# Altium schematic symbol library Conectores_SCHLIB.SchLib: 47 symbols
Pins are listed as number, name and electrical type; pins without a type are passive.

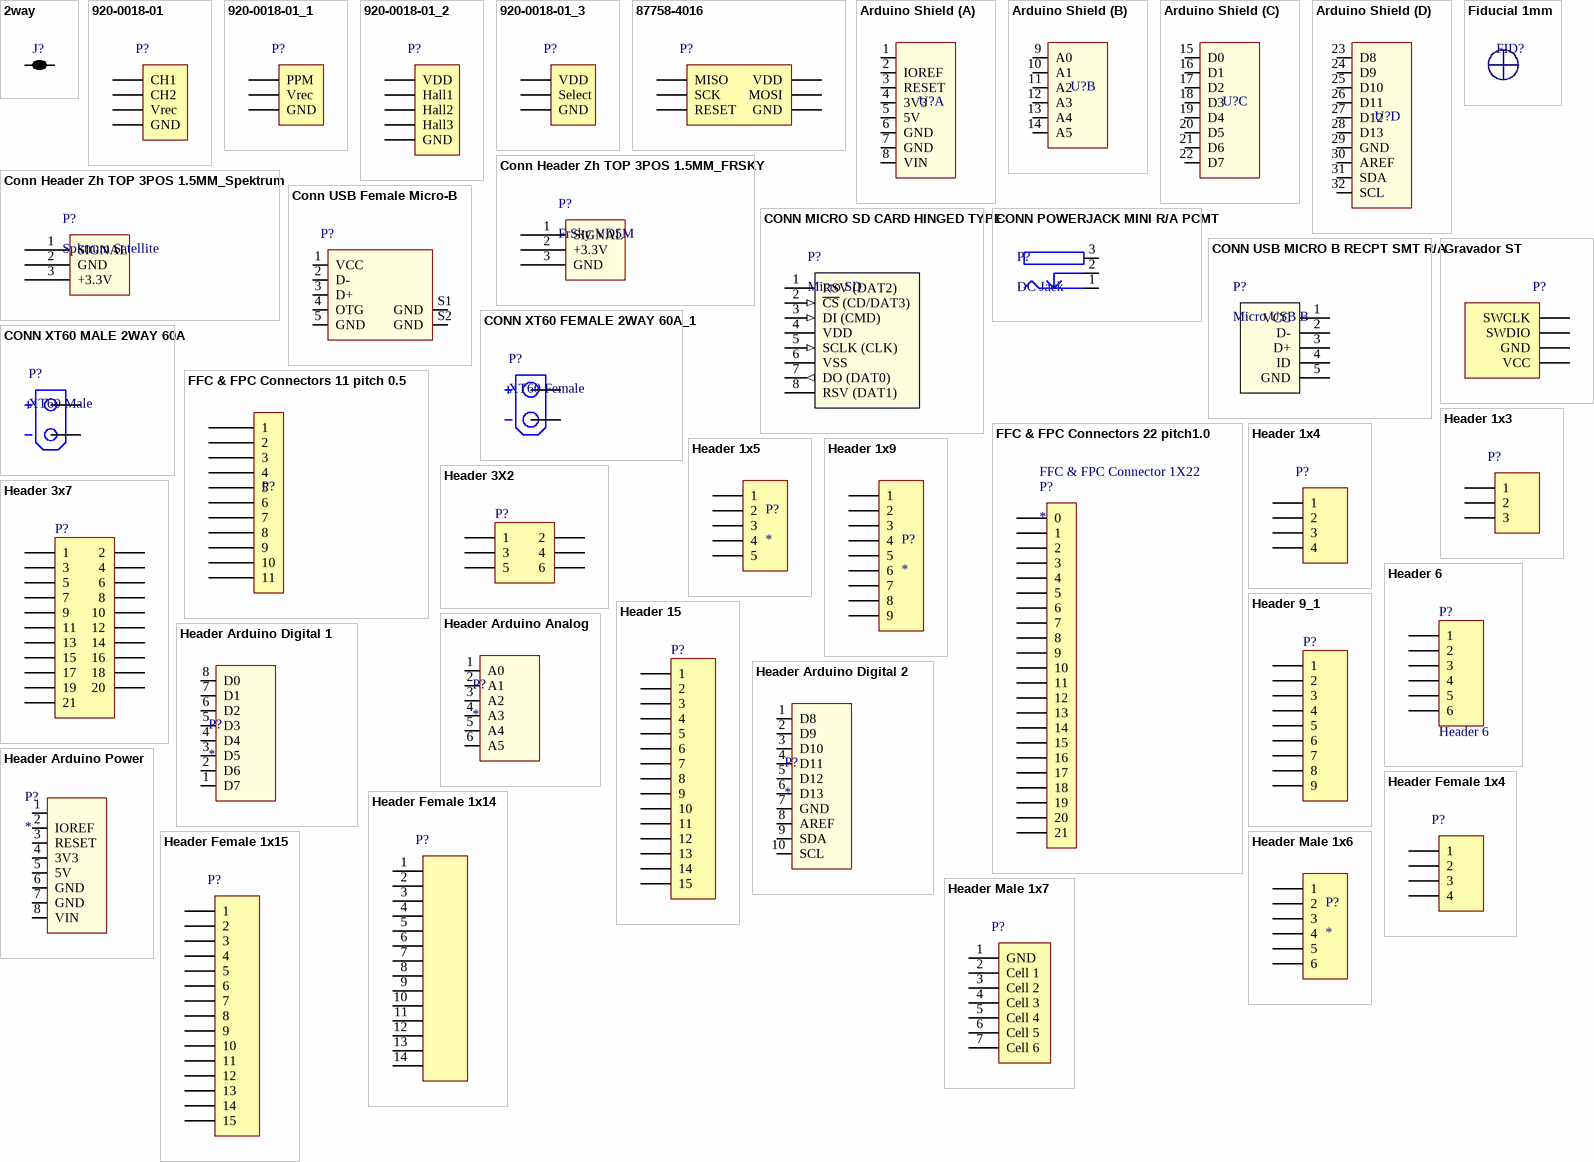
[diagram p0: symbols 2way to Header Male 1x7]

## 2way
designator J?, comment 2 way net tie junction  (value not drawn)  (net tie, no BOM)
ComponentLink1URL: http://www.edatools.cz/addons; ComponentLink1Description: Source; FootprintNote: LP=12mil, MP=40mil, HP=120mil
footprint 2way_MP (2 way medium power net tie junction)
pins: 1, 2

## 920-0018-01
designator P?  (value not drawn)
Headers & Wire Housings 40Pin 2mm Spacing Single Row Hdrs, 5pc; Manufacturer: SchmartBoard; Mounting Angle: Vertical; Number of Positions: 40 Position; Supplier 1: Mouser; Manufacturer Part Number: 920-0018-01; RoHS: RoHS Compliant; Category: Headers & Wire Housings; Stock 1: 14; Pricing 1: 1=7.43, 5=7.05 (AUD); Accessory Type: -; Contact Plating: Gold; Contact Type: -; Number of Rows: 1 Row; Product: Headers; Termination Style: Through Hole; Type: Breakaway; Brand: SchmartBoard; Mounting Style: Straight Pin; Pitch: 2 mm; Row Spacing: -; Contact Gender: Pin (Male); Product Category: Accessories; RoHS - Mouser: Y; Minimum Order Quantity: 1; Reeling: False; ComponentLink1URL: http://www.mouser.com/ds/2/356/SchmartBoard_920-0018-01-305856.pdf; ComponentLink1Description: http://www.mouser.com/ds/2/356/SchmartBoard_920-0018-01-305856.pdf; Supplier Part Number 1: 872-920-0018-01
footprint Receptor (Connector; Header; 5 Position)
footprint Header_1x4 (Connector; Header; 5 Position)
pins: 1 CH1, 2 CH2, 3 Vrec (power), 4 GND (power)

## 920-0018-01_1
designator P?, comment 920-0018-01  (value not drawn)
Headers & Wire Housings 40Pin 2mm Spacing Single Row Hdrs, 5pc; Manufacturer: SchmartBoard; Mounting Angle: Vertical; Number of Positions: 40 Position; Supplier 1: Mouser; Manufacturer Part Number: 920-0018-01; RoHS: RoHS Compliant; Category: Headers & Wire Housings; Stock 1: 14; Pricing 1: 1=7.43, 5=7.05 (AUD); Accessory Type: -; Contact Plating: Gold; Contact Type: -; Number of Rows: 1 Row; Product: Headers; Termination Style: Through Hole; Type: Breakaway; Brand: SchmartBoard; Mounting Style: Straight Pin; Pitch: 2 mm; Row Spacing: -; Contact Gender: Pin (Male); Product Category: Accessories; RoHS - Mouser: Y; Minimum Order Quantity: 1; Reeling: False; ComponentLink1URL: http://www.mouser.com/ds/2/356/SchmartBoard_920-0018-01-305856.pdf; ComponentLink1Description: http://www.mouser.com/ds/2/356/SchmartBoard_920-0018-01-305856.pdf; Supplier Part Number 1: 872-920-0018-01
footprint RECEPTOR (1 channel) (Connector; Header; 5 Position)
pins: 1 PPM, 2 Vrec (power), 3 GND (power)

## 920-0018-01_2
designator P?  (value not drawn)
Headers & Wire Housings 40Pin 2mm Spacing Single Row Hdrs, 5pc; Manufacturer: SchmartBoard; Mounting Angle: Vertical; Number of Positions: 40 Position; Supplier 1: Mouser; Manufacturer Part Number: 920-0018-01; RoHS: RoHS Compliant; Category: Headers & Wire Housings; Stock 1: 14; Pricing 1: 1=7.43, 5=7.05 (AUD); Accessory Type: -; Contact Plating: Gold; Contact Type: -; Number of Rows: 1 Row; Product: Headers; Termination Style: Through Hole; Type: Breakaway; Brand: SchmartBoard; Mounting Style: Straight Pin; Pitch: 2 mm; Row Spacing: -; Contact Gender: Pin (Male); Product Category: Accessories; RoHS - Mouser: Y; Minimum Order Quantity: 1; Reeling: False; ComponentLink1URL: http://www.mouser.com/ds/2/356/SchmartBoard_920-0018-01-305856.pdf; ComponentLink1Description: http://www.mouser.com/ds/2/356/SchmartBoard_920-0018-01-305856.pdf; Supplier Part Number 1: 872-920-0018-01
footprint HEADER_1X5 (Connector; Header; 5 Position)
pins: 1 VDD (power), 2 Hall1, 3 Hall2, 4 Hall3, 5 GND (power)

## 920-0018-01_3
designator P?, comment 920-0018-01  (value not drawn)
Headers & Wire Housings 40Pin 2mm Spacing Single Row Hdrs, 5pc; Manufacturer: SchmartBoard; Mounting Angle: Vertical; Number of Positions: 40 Position; Supplier 1: Mouser; Manufacturer Part Number: 920-0018-01; RoHS: RoHS Compliant; Category: Headers & Wire Housings; Stock 1: 14; Pricing 1: 1=7.43, 5=7.05 (AUD); Accessory Type: -; Contact Plating: Gold; Contact Type: -; Number of Rows: 1 Row; Product: Headers; Termination Style: Through Hole; Type: Breakaway; Brand: SchmartBoard; Mounting Style: Straight Pin; Pitch: 2 mm; Row Spacing: -; Contact Gender: Pin (Male); Product Category: Accessories; RoHS - Mouser: Y; Minimum Order Quantity: 1; Reeling: False; ComponentLink1URL: http://www.mouser.com/ds/2/356/SchmartBoard_920-0018-01-305856.pdf; ComponentLink1Description: http://www.mouser.com/ds/2/356/SchmartBoard_920-0018-01-305856.pdf; Supplier Part Number 1: 872-920-0018-01
footprint HEADER_1X3 (Connector; Header; 5 Position)
pins: 1 VDD (power), 2 Select, 3 GND (power)

## 87758-4016
designator P?  (value not drawn)
Headers & Wire Housings VERT HEADER 40P Lead Free; Manufacturer: Molex; Current Rating: 2 A; Mounting Angle: Vertical; Number of Positions: 40 Position; Voltage Rating: 125 V; Pitch: 2 mm; Supplier 1: Mouser; Manufacturer Part Number: 87758-4016; RoHS: RoHS Compliant; Category: Headers & Wire Housings; Stock 1: 704; Pricing 1: 1=3.82, 10=2.96, 100=2.51, 500=2.29, 1000=2.08, 2000=1.98, 5000=1.87 (AUD); Accessory Type: -; Contact Plating: Gold; Contact Type: -; Housing Material: Nylon; Number of Rows: 2 Row; Packaging: Tray; Product: Headers; Series: 87758; Termination Style: Through Hole; Type: Breakaway; Brand: Molex; Contact Material: Phosphor Bronze; Mounting Style: Through Hole; Row Spacing: 2 mm; Contact Gender: Pin (Male); Product Category: 2mm Connectors; Standard Pack Qty: 900; Tradename: Milli-Grid; RoHS - Mouser: Y; Minimum Order Quantity: 1; Reeling: False; ComponentLink1URL: http://www.mouser.com/ds/2/276/0877584016_PCB_HEADERS-176369.pdf; ComponentLink1Description: http://www.mouser.com/ds/2/276/0877584016_PCB_HEADERS-176369.pdf; Supplier Part Number 1: 538-87758-4016
footprint USBASP (Connector; Header; 5 Position)
footprint Header_2x3 (Connector; Header; 3x2 Position)
footprint ISP6_Edge(wo/ header)
footprint ISP6_Edge(w/ header)
pins: 1 GND (power), 2 RESET, 3 MOSI, 4 SCK, 5 VDD (power), 6 MISO

## Arduino Shield
designator U?  (value not drawn)
footprint ARDUINO SHIELD
part A pins: 1, 2 IOREF, 3 RESET, 4 3V3, 5 5V, 6 GND, 7 GND, 8 VIN
part B pins: 9 A0, 10 A1, 11 A2, 12 A3, 13 A4, 14 A5
part C pins: 15 D0, 16 D1, 17 D2, 18 D3, 19 D4, 20 D5, 21 D6, 22 D7
part D pins: 23 D8, 24 D9, 25 D10, 26 D11, 27 D12, 28 D13, 29 GND, 30 AREF, 31 SDA, 32 SCL

## Conn Header Zh TOP 3POS 1.5MM_FRSKY
designator P?, comment FrSky VD5M
Conn Header Zh TOP 3POS 1.5MM_FRSKY; Manufacturer: JST Sales America Inc.; Manufacturer Part Number: B3B-ZR(LF)(SN); Connector Type: Header, Shrouded; Number of Positions: 3; Number of Positions Loaded: All; Pitch: 0.059" (1.50mm); Supplier 1: Digi-Key; RoHS: RoHS Compliant; Category: Connectors, Interconnects; Stock 1: 37722; Pricing 1: 1=0.18, 10=0.168, 100=0.1163, 500=0.0984, 1000=0.08051, 5000=0.07157, 10000=0.06486 (USD); Packaging: Bulk; Contact Type: Male Pin; Number of Rows: 1; Row Spacing: -; Contact Mating Length: 0.094" (2.40mm); Mounting Type: Through Hole; Termination: Press-Fit; Fastening Type: Detent Lock; Features: -; Contact Finish: Tin; Contact Finish Thickness: -; Color: Natural; ComponentLink1URL: http://www.jst-mfg.com/product/pdf/eng/eZH.pdf; ComponentLink1Description: http://www.jst-mfg.com/product/pdf/eng/eZH.pdf
footprint JST-ZH3 Male
pins: 1 SIGNAL (power), 2 +3.3V (power), 3 GND (power)

## Conn Header Zh TOP 3POS 1.5MM_Spektrum
designator P?, comment Spktrum Satellite
Conn Header ZH TOP 3POS 1.5MM Spektrum Satellite; Manufacturer: JST Sales America Inc.; Manufacturer Part Number: B3B-ZR(LF)(SN); Connector Type: Header, Shrouded; Number of Positions: 3; Number of Positions Loaded: All; Pitch: 0.059" (1.50mm); Supplier 1: Digi-Key; RoHS: RoHS Compliant; Category: Connectors, Interconnects; Stock 1: 37722; Pricing 1: 1=0.18, 10=0.168, 100=0.1163, 500=0.0984, 1000=0.08051, 5000=0.07157, 10000=0.06486 (USD); Packaging: Bulk; Contact Type: Male Pin; Number of Rows: 1; Row Spacing: -; Contact Mating Length: 0.094" (2.40mm); Mounting Type: Through Hole; Termination: Press-Fit; Fastening Type: Detent Lock; Features: -; Contact Finish: Tin; Contact Finish Thickness: -; Color: Natural; ComponentLink1URL: http://www.jst-mfg.com/product/pdf/eng/eZH.pdf; ComponentLink1Description: http://www.jst-mfg.com/product/pdf/eng/eZH.pdf
footprint JST-ZH3 Male
pins: 1 SIGNAL (power), 2 GND (power), 3 +3.3V (power)

## CONN MICRO SD CARD HINGED TYPE
designator P?, comment Micro SD
CONN MICRO SD CARD HINGED TYPE; Manufacturer: Molex, LLC; Manufacturer Part Number: 0472192001; Card Type: Secure Digital - microSD™; Number of Positions: 8; Connector Type: Connector and Ejector; Insertion, Removal Method: Hinged Lid; Supplier 1: Digi-Key; RoHS: RoHS Compliant; Category: Connectors, Interconnects; Stock 1: 0; Pricing 1: 1=1.11, 10=0.973, 25=0.916, 50=0.8776, 100=0.8395, 250=0.7632, 500=0.68686, 1000=0.61054 (USD); Packaging: Cut Tape (CT); Ejector Side: -; Mounting Type: Surface Mount, Right Angle; Features: -; Height Above Board: 0.075" (1.90mm); Mounting Feature: Normal, Standard - Top; Contact Finish: Gold; Contact Finish Thickness: 20µin (0.51µm); ComponentLink1URL: http://www.molex.com/pdm_docs/sd/472192001_sd.pdf; ComponentLink1Description: http://www.molex.com/pdm_docs/sd/472192001_sd.pdf; Supplier Part Number 1: WM6698CT-ND
footprint USD SOCKET (Micro SD Socket)
pins: 1 RSV (DAT2), 2 ~{CS} (CD/DAT3) (in), 3 DI (CMD) (in), 4 VDD (power), 5 SCLK (CLK) (in), 6 VSS (power), 7 DO (DAT0) (out), 8 RSV (DAT1), G1 GND hidden to GND, G2 GND hidden to GND, G3 GND hidden to GND, G4 GND hidden to GND
1 alternate drawing of the same symbol

## CONN POWERJACK MINI R/A PCMT
designator P?, comment DC Jack
CONN POWERJACK MINI R/A PCMT; Manufacturer: Switchcraft Inc.; Manufacturer Part Number: RAPC712X; Gender: Male; Industry Recognized Mating Diameter: 2.50mm ID (0.098"), 5.50mm OD (0.217"); Actual Diameter: 0.098" (2.50mm ID), 0.248" (6.30mm OD); Number of Positions/Contacts: 2 Conductors, 3 Contacts; Internal Switch(s): Single Switch, Normally Closed; Shielding: Unshielded; Current Rating: 5A; Includes: 1 pc - 1 Connector; Supplier 1: Digi-Key; RoHS: RoHS Compliant; Category: Connectors, Interconnects; Stock 1: 37774; Pricing 1: 1=0.9, 10=0.833, 25=0.7856, 50=0.7616, 100=0.7259, 250=0.714, 500=0.7 (USD); Packaging: Bulk; Part Status: Active; Connector Type: Jack; Mounting Type: Through Hole, Right Angle; Mounting Feature: -; Termination: Solder Eyelet(s); Features: -; Insulation Color: -; Voltage - Rated: -; Mating Length/Depth: -; Contact Material - Plating: Silver; Body Material: -; Operating Temperature: -; ComponentLink1URL: http://www.conxall.com/Drawings/rapc712x_cd.pdf; ComponentLink1Description: http://www.conxall.com/Drawings/rapc712x_cd.pdf; Supplier Part Number 1: SC237-ND
footprint PJ-002B (DC Power Jack, 2.5mm, KLD Series, PCB Mount)
pins: 1 GND (power), 2 DETECT, 3 V+ (power)

## Conn USB Female Micro-B
designator P?, comment USB Connectors MICRO USB B RECPT BTTM MOUNT ASSY  (value not drawn)
MICRO USB B RECPT BTTM MOUNT ASSY; Manufacturer: Molex; Manufacturer Part Number: 47346-0001; Connector Type: Micro USB Type B Receptacle; Current Rating: 1.8 A; Gender: Female; Mounting Angle: Right; Number of Contacts: 5 Contact; Voltage Rating: 30 VAC; Number of Ports: 1 Port; Supplier 1: Mouser; RoHS: RoHS Compliant; Category: USB Connectors; Stock 1: 16754; Pricing 1: 1=0.840, 10=0.766, 100=0.656, 250=0.594, 500=0.547, 1000=0.469, 2000=0.453, 4000=0.437, 10000=0.406 (USD); Contact Plating: Gold; Operating Temperature Range: - 20 C to + 85 C; Packaging: Reel; Product: Micro USB Type B Connectors; Series: 47346; Termination Style: SMD/SMT; Brand: Molex; Contact Material: Copper Alloy; Standard: USB 2.0; Standard Pack Qty: 2000; RoHS - Mouser: Y; Minimum Order Quantity: 1; Reeling: True; ComponentLink1URL: http://www.mouser.com/ds/2/276/0473460001_IO_CONNECTORS-229243.pdf; ComponentLink1Description: http://www.mouser.com/ds/2/276/0473460001_IO_CONNECTORS-229243.pdf
footprint USB MICRO FEMALE
pins: 1 VCC, 2 D-, 3 D+, 4 OTG, 5 GND, S1 GND, S2 GND

## CONN USB MICRO B RECPT SMT R/A
designator P?, comment Micro USB B
CONN USB MICRO B RECPT SMT R/A; Manufacturer: Amphenol FCI; Manufacturer Part Number: 10118192-0001LF; Connector Type: USB - micro B; Number of Contacts: 5; Gender: Receptacle; Specifications: USB 2.0; Supplier 1: Digi-Key; RoHS: RoHS Compliant; Category: Connectors, Interconnects; Stock 1: 283825; Pricing 1: 1=0.46, 10=0.437, 25=0.3744, 50=0.318, 100=0.3056, 250=0.27444, 500=0.26196 (USD); Packaging: Cut Tape (CT); Part Status: Active; Mounting Type: Surface Mount, Right Angle, Horizontal; Features: Flange, Shielded; Ingress Protection: -; ComponentLink1URL: http://portal.fciconnect.com/Comergent//fci/drawing/10118192.pdf; ComponentLink1Description: http://portal.fciconnect.com/Comergent//fci/drawing/10118192.pdf; Supplier Part Number 1: 609-4613-1-ND
footprint MICRO USB B (Connector Micro USB B Receptacle SMT)
pins: 1 VCC, 2 D-, 3 D+, 4 ID, 5 GND

## CONN XT60 FEMALE 2WAY 60A_1
designator P?, comment XT60 Female
CONN XT60 FEMALE 2WAY 60A; Manufacturer: Turnigy; No. of Contacts: 2; Gender: Connector (Female); Pitch Spacing: 7.15mm; Contact Termination Type: Through Hole; No. of Rows: 1; Contact Termination: Through Hole Vertical; Current Rating: 60; Supplier 1: HobbyKing; Manufacturer Part Number: XT60; Stock 1: Available; Pricing 1: 5=2.85 (USD); Contact Plating: Gold; Lead Spacing: 7.15mm; Termination Method: Solder; ComponentLink1URL: http://www.hobbyking.com/hobbyking/store/__18448__Female_XT60_Connectors_5pcs_bag_GENUINE.html; ComponentLink1Description: http://www.hobbyking.com/hobbyking/store/__18448__Female_XT60_Connectors_5pcs_bag_GENUINE.html; ComponentLink2URL: http://www.3dcontentcentral.com/secure/download-model.aspx?catalogid=171&id=221628; ComponentLink2Description: http://www.3dcontentcentral.com/secure/download-model.aspx?catalogid=171&id=221628; Supplier Part Number 1: 601Bx5
footprint XT60 FEMALE
pins: 1 + (power), 2 - (power)

## CONN XT60 MALE 2WAY 60A
designator P?, comment XT60 Male
CONN XT60 MALE 2WAY 60A; Manufacturer: Turnigy; No. of Contacts: 2; Gender: Connector (Male); Pitch Spacing: 7.15mm; Contact Termination Type: Through Hole; No. of Rows: 1; Contact Termination: Through Hole Vertical; Current Rating: 60; Supplier 1: HobbyKing; Manufacturer Part Number: XT60; Stock 1: Available; Pricing 1: 5=2.02 (USD); Contact Plating: Gold; Lead Spacing: 7.15mm; Termination Method: Solder; ComponentLink1URL: http://www.hobbyking.com/hobbyking/store/__10414__Male_XT60_Connectors_5pcs_bag_GENUINE.html; ComponentLink1Description: http://www.hobbyking.com/hobbyking/store/__10414__Male_XT60_Connectors_5pcs_bag_GENUINE.html; ComponentLink2URL: http://www.3dcontentcentral.com/secure/download-model.aspx?catalogid=171&id=221629; ComponentLink2Description: http://www.3dcontentcentral.com/secure/download-model.aspx?catalogid=171&id=221629; Supplier Part Number 1: 601Ax5
footprint XT60 MALE
pins: 1 + (power), 2 - (power)

## FFC & FPC Connectors 11 pitch 0.5
designator P?  (value not drawn)
0.5 FFC ZIF BTM CONT EMBT PKG 11; Manufacturer: Molex, LLC; Manufacturer Part Number: 5052781133; Flat Flex Type: FFC, FPC; Connector/Contact Type: Contacts, Bottom; Number of Positions: 11; Pitch: 0.020" (0.50mm); FFC, FCB Thickness: 0.30mm; Locking Feature: Flip Lock; Cable End Type: Tabbed, Tapered; Actuator Material: Polyamide (PA), Nylon, Glass Filled; Voltage Rating: 50V; Material Flammability Rating: UL94 V-0; Current Rating: 0.5A; Actuator Color: Black; Mating Cycles: 25; Supplier 1: Digi-Key; RoHS: RoHS Compliant; Category: Connectors, Interconnects; Stock 1: 0; Pricing 1: 3000=0.27285 (USD); Packaging: Tape & Reel (TR); Part Status: Active; Mounting Type: Surface Mount, Right Angle; Termination: Solder; Height Above Board: 0.075" (1.90mm); Contact Material: Phosphor Bronze; Contact Finish: Tin; Housing Material: Liquid Crystal Polymer (LCP), Glass Filled; Features: Solder Retention; Operating Temperature: -40°C ~ 85°C; Contact Finish Thickness: 39µin (1.00µm); Housing Color: Beige; ComponentLink1URL: http://www.molex.com/pdm_docs/sd/5052781133_sd.pdf; ComponentLink1Description: http://www.molex.com/pdm_docs/sd/5052781133_sd.pdf; Supplier Part Number 1: 5052781133-ND
footprint FFC / FCP - Flat Cable 11
pins: 1, 2, 3, 4, 5, 6, 7, 8, 9, 10, 11

## FFC & FPC Connectors 22 pitch1.0
designator P?  Supplier Part Number 1: FFC & FPC Connector 1X22
FFC & FPC Connectors 1.0 FPC ZIF DBL BTM CONT 22CKT RA FD19; Manufacturer: Molex; Manufacturer Part Number: 200528-0220; Current Rating: 500 mA; Mounting Angle: Right; Number of Positions: 22 Position; Voltage Rating: 50 V; Pitch: 1 mm; Contact Location: Bottom Contact; Product Status: New Product; Supplier 1: Mouser; RoHS: RoHS Compliant; Category: FFC & FPC Connectors; Stock 1: 3000; Pricing 1: 1=0.700, 10=0.611, 100=0.531, 500=0.435, 1000=0.386, 3000=0.350, 6000=0.338, 9000=0.326, 24000=0.314 (USD); Contact Plating: Gold; Housing Material: Liquid Crystal Polymer (LCP); Packaging: Reel; Product: Headers; Series: 200528; Temperature Range: - 40 C to + 105 C; Termination Style: SMD; Brand: Molex; Contact Material: Phosphor Bronze; Flammability Rating: UL 94 V-0; Actuation Type: ZIF; Standard Pack Qty: 3000; Tradename: Easy-On; RoHS - Mouser: Y; Minimum Order Quantity: 1; Reeling: True; ComponentLink1URL: http://www.mouser.com/ds/2/276/2005280220_FFC_FPC_CONNECTORS-918269.pdf; ComponentLink1Description: http://www.mouser.com/ds/2/276/2005280220_FFC_FPC_CONNECTORS-918269.pdf
footprint FFC / FPC - Flat Cable 22
pins: 0, 1, 2, 3, 4, 5, 6, 7, 8, 9, 10, 11, 12, 13, 14, 15, 16, 17, 18, 19, 20, 21

## Fiducial 1mm
designator FID?  (value not drawn)  (no BOM)
footprint FIDUCIAL

## Gravador ST
designator P?  (value not drawn)
Headers & Wire Housings 40Pin 2mm Spacing Single Row Hdrs, 5pc; Manufacturer: Cromax; Manufacturer Part Number: IMP10327; Mounting Angle: Vertical; Number of Positions: 40 Position; Supplier 1: Mult Comercial; RoHS: RoHS Compliant; Category: Headers & Wire Housings; Stock 1: 14; Pricing 1: 1=1.00, 5=0.20 (BRL); Accessory Type: -; Contact Plating: Gold; Contact Type: -; Number of Rows: 1 Row; Product: Headers; Termination Style: Through Hole; Type: Breakaway; Brand: Cromax; Mounting Style: Straight Pin; Pitch: 2 mm; Row Spacing: -; Contact Gender: Pin (Male); Product Category: Accessories; RoHS - Mouser: Y; Minimum Order Quantity: 1; Reeling: False; ComponentLink1URL: http://loja.multcomercial.com.br/barra-de-pinos-simples-1x40-macho-bmo40-1e.html; ComponentLink1Description: http://loja.multcomercial.com.br/barra-de-pinos-simples-1x40-macho-bmo40-1e.html; Supplier Part Number 1: Barra de Pinos Simples 1x40 Macho BMO40-1E
footprint HDR MALE 1x4 (PinHeader 1x4 TH Pitch 2.54mm)
footprint HDR FEMALE 1x4 (Connector; Header; 4 Position)
footprint HDR1X4
pins: 1 VCC, 2 GND, 3 SWDIO (power), 4 SWCLK (power)

## Header 1x3
designator P?  (value not drawn)
Headers & Wire Housings 40Pin 2mm Spacing Single Row Hdrs, 5pc; Manufacturer: Cromax; Manufacturer Part Number: IMP10327; Mounting Angle: Vertical; Number of Positions: 40 Position; Supplier 1: Mult Comercial; RoHS: RoHS Compliant; Category: Headers & Wire Housings; Stock 1: 14; Pricing 1: 1=1.00, 5=0.20 (BRL); Accessory Type: -; Contact Plating: Gold; Contact Type: -; Number of Rows: 1 Row; Product: Headers; Termination Style: Through Hole; Type: Breakaway; Brand: Cromax; Mounting Style: Straight Pin; Pitch: 2 mm; Row Spacing: -; Contact Gender: Pin (Male); Product Category: Accessories; RoHS - Mouser: Y; Minimum Order Quantity: 1; Reeling: False; ComponentLink1URL: http://loja.multcomercial.com.br/barra-de-pinos-simples-1x40-macho-bmo40-1e.html; ComponentLink1Description: http://loja.multcomercial.com.br/barra-de-pinos-simples-1x40-macho-bmo40-1e.html; Supplier Part Number 1: Barra de Pinos Simples 1x40 Macho BMO40-1E
footprint HDR MALE 1x3 (PinHeader 1x3 TH Pitch 2.54mm)
footprint HDR FEMALE 1x3 (PinHeader 1x3 TH Pitch 2.54mm)
footprint HDR1X3
pins: 1, 2, 3 (power)

## Header 1x4
designator P?  (value not drawn)
Headers & Wire Housings 40Pin 2mm Spacing Single Row Hdrs, 5pc; Manufacturer: Cromax; Manufacturer Part Number: IMP10327; Mounting Angle: Vertical; Number of Positions: 40 Position; Supplier 1: Mult Comercial; RoHS: RoHS Compliant; Category: Headers & Wire Housings; Stock 1: 14; Pricing 1: 1=1.00, 5=0.20 (BRL); Accessory Type: -; Contact Plating: Gold; Contact Type: -; Number of Rows: 1 Row; Product: Headers; Termination Style: Through Hole; Type: Breakaway; Brand: Cromax; Mounting Style: Straight Pin; Pitch: 2 mm; Row Spacing: -; Contact Gender: Pin (Male); Product Category: Accessories; RoHS - Mouser: Y; Minimum Order Quantity: 1; Reeling: False; ComponentLink1URL: http://loja.multcomercial.com.br/barra-de-pinos-simples-1x40-macho-bmo40-1e.html; ComponentLink1Description: http://loja.multcomercial.com.br/barra-de-pinos-simples-1x40-macho-bmo40-1e.html; Supplier Part Number 1: Barra de Pinos Simples 1x40 Macho BMO40-1E
footprint HDR MALE 1x4 (PinHeader 1x4 TH Pitch 2.54mm)
footprint HDR FEMALE 1x4 (Connector; Header; 4 Position)
footprint HDR1X4
footprint Receptor (Connector; Header; 5 Position)
pins: 1, 2, 3 (power), 4 (power)

## Header 1x5
designator P?
Headers & Wire Housings 36Pin 2mm Spacing Single Row Hdrs, 5pc; Manufacturer: Molex, LLC; Manufacturer Part Number: 0022284360; Connector Type: Header, Unshrouded, Breakaway; Number of Positions: 36; Number of Positions Loaded: All; Pitch: 0.100" (2.54mm); Supplier 1: Digi-Key; RoHS: RoHS Compliant; Category: Connectors, Interconnects; Stock 1: 9595; Pricing 1: 1=0.98, 10=0.858, 25=0.808, 50=0.7742, 100=0.7405, 250=0.6732, 500=0.60588 (USD); Packaging: Bulk; Contact Type: Male Pin; Number of Rows: 1; Row Spacing: -; Contact Mating Length: 0.240" (6.10mm); Mounting Type: Through Hole; Termination: Solder; Fastening Type: -; Features: -; Contact Finish: Tin; Contact Finish Thickness: 100µin (2.54µm); Color: Black; ComponentLink1URL: http://www.molex.com/pdm_docs/sd/022284360_sd.pdf; ComponentLink1Description: http://www.molex.com/pdm_docs/sd/022284360_sd.pdf; Supplier Part Number 1: WM50014-36-ND
footprint HDR1X5 90'' HIGH
footprint HDR1X5 90'' LOW
footprint HDR1X5
pins: 1, 2, 3, 4, 5

## Header 1x9
designator P?
Headers & Wire Housings 36Pin 2mm Spacing Single Row Hdrs, 5pc; Manufacturer: Molex, LLC; Manufacturer Part Number: 0022284360; Connector Type: Header, Unshrouded, Breakaway; Number of Positions: 36; Number of Positions Loaded: All; Pitch: 0.100" (2.54mm); Supplier 1: Digi-Key; RoHS: RoHS Compliant; Category: Connectors, Interconnects; Stock 1: 9595; Pricing 1: 1=0.98, 10=0.858, 25=0.808, 50=0.7742, 100=0.7405, 250=0.6732, 500=0.60588 (USD); Packaging: Bulk; Contact Type: Male Pin; Number of Rows: 1; Row Spacing: -; Contact Mating Length: 0.240" (6.10mm); Mounting Type: Through Hole; Termination: Solder; Fastening Type: -; Features: -; Contact Finish: Tin; Contact Finish Thickness: 100µin (2.54µm); Color: Black; ComponentLink1URL: http://www.molex.com/pdm_docs/sd/022284360_sd.pdf; ComponentLink1Description: http://www.molex.com/pdm_docs/sd/022284360_sd.pdf; Supplier Part Number 1: WM50014-36-ND
footprint HDR1x9 (PinHeader 1x9 TH Pitch 2.54mm)
footprint HDR 9x1 90'' HIGH (PinHeader 1x9 TH Pitch 2.54mm)
footprint HDR 9x1 90'' LOW (PinHeader 1x9 TH Pitch 2.54mm)
pins: 1, 2, 3, 4, 5, 6, 7, 8, 9

## Header 3X2
designator P?  (value not drawn)
Header, 3-Pin, Dual row; LatestRevisionDate: 17-Jul-2002; LatestRevisionNote: Re-released for DXP Platform.; Publisher: Altium Limited
footprint HDR2X3 (Connector; Header; 3x2 Position)
signal-integrity model Connector
pins: 1, 2, 3, 4, 5, 6

## Header 3x7
designator P?  (value not drawn)
Header, 7-Pin, Triple Row; LatestRevisionDate: 17-Jul-2002; LatestRevisionNote: Re-released for DXP Platform.; Publisher: Altium Limited
footprint HDR MALE 3x7 (Connector; Header; 21 Position)
pins: 1, 2, 3, 4, 5, 6, 7, 8, 9, 10, 11, 12, 13, 14, 15, 16, 17, 18, 19, 20, 21

## Header 6
designator P?
Header, 6-Pin; LatestRevisionDate: 17-Jul-2002; LatestRevisionNote: Re-released for DXP Platform.; Publisher: Altium Limited
signal-integrity model Connector
footprint Pitch 2.0mm (Connector; Header; 6 Position)
pins: 1, 2, 3, 4, 5, 6

## Header 9_1
designator P?, comment 9  (value not drawn)
Header, 9-Pin; LatestRevisionDate: 17-Jul-2002; LatestRevisionNote: Re-released for DXP Platform.; Publisher: Altium Limited
footprint HDR1X9 (PinHeader 1x9 TH Pitch 2.54mm)
signal-integrity model Connector
pins: 1, 2, 3, 4, 5, 6, 7, 8, 9

## Header 15
designator P?  (value not drawn)
Header, 15-Pin; LatestRevisionDate: 17-Jul-2002; LatestRevisionNote: Re-released for DXP Platform.; Publisher: Altium Limited
footprint HDR1X15 (Connector; Header; 15 Position)
signal-integrity model Connector
pins: 1, 2, 3, 4, 5, 6, 7, 8, 9, 10, 11, 12, 13, 14, 15

## Header Arduino Analog
designator P?
footprint HDR FEMALE 1x6
pins: 1 A0, 2 A1, 3 A2, 4 A3, 5 A4, 6 A5

## Header Arduino Digital 1
designator P?
footprint HDR FEMALE 1x8
pins: 1 D7, 2 D6, 3 D5, 4 D4, 5 D3, 6 D2, 7 D1, 8 D0

## Header Arduino Digital 2
designator P?
footprint HDR FEMALE 1x10
pins: 1 D8, 2 D9, 3 D10, 4 D11, 5 D12, 6 D13, 7 GND, 8 AREF, 9 SDA, 10 SCL

## Header Arduino Power
designator P?
footprint HDR FEMALE 1x8
pins: 1, 2 IOREF, 3 RESET, 4 3V3, 5 5V, 6 GND, 7 GND, 8 VIN

## Header Female 1x4
designator P?  (value not drawn)
Headers & Wire Housings 40Pin 2mm Spacing Single Row Hdrs, 5pc; Manufacturer: Cromax; Mounting Angle: Vertical; Number of Positions: 40 Position; Supplier 1: -; Manufacturer Part Number: -; RoHS: RoHS Compliant; Category: Headers & Wire Housings; Stock 1: 14; Pricing 1: 1=1.60, 5=0.32 (BRL); Accessory Type: -; Contact Plating: Gold; Contact Type: -; Number of Rows: 1 Row; Product: Headers; Termination Style: Through Hole; Type: Breakaway; Brand: Cromax; Mounting Style: Straight Pin; Pitch: 2 mm; Row Spacing: -; Contact Gender: Pin (Female); Product Category: Accessories; RoHS - Mouser: Y; Minimum Order Quantity: 1; Reeling: False; ComponentLink1URL: -; ComponentLink1Description: -; Supplier Part Number 1: -
footprint HDR FEMALE 1x4 (Connector; Header; 4 Position)
pins: 1, 2, 3 (power), 4 (power)

## Header Female 1x14
designator P?  (value not drawn)
Headers & Wire Housings 40Pin 2mm Spacing Single Row Hdrs, 5pc; Manufacturer: Cromax; Mounting Angle: Vertical; Number of Positions: 40 Position; Supplier 1: -; Manufacturer Part Number: -; RoHS: RoHS Compliant; Category: Headers & Wire Housings; Stock 1: 14; Pricing 1: 1=1.60, 2=0.80 (BRL); Accessory Type: -; Contact Plating: Gold; Contact Type: -; Number of Rows: 1 Row; Product: Headers; Termination Style: Through Hole; Type: Breakaway; Brand: Cromax; Mounting Style: Straight Pin; Pitch: 2 mm; Row Spacing: -; Contact Gender: Pin (Female); Product Category: Accessories; RoHS - Mouser: Y; Minimum Order Quantity: 1; Reeling: False; ComponentLink1URL: -; ComponentLink1Description: -; Supplier Part Number 1: -
footprint HDR FEMALE 1x14 (Connector; Header; 14 Position)
pins: 1, 2, 3, 4, 5, 6, 7, 8, 9, 10, 11, 12, 13, 14

## Header Female 1x15
designator P?  (value not drawn)
Headers & Wire Housings 40Pin 2mm Spacing Single Row Hdrs, 5pc; Manufacturer: Cromax; Mounting Angle: Vertical; Number of Positions: 40 Position; Supplier 1: -; Manufacturer Part Number: -; RoHS: RoHS Compliant; Category: Headers & Wire Housings; Stock 1: 14; Pricing 1: 1=1.60, 5=0.32 (BRL); Accessory Type: -; Contact Plating: Gold; Contact Type: -; Number of Rows: 1 Row; Product: Headers; Termination Style: Through Hole; Type: Breakaway; Brand: Cromax; Mounting Style: Straight Pin; Pitch: 2 mm; Row Spacing: -; Contact Gender: Pin (Female); Product Category: Accessories; RoHS - Mouser: Y; Minimum Order Quantity: 1; Reeling: False; ComponentLink1URL: -; ComponentLink1Description: -; Supplier Part Number 1: -
footprint HDR FEMALE 1x15
pins: 1, 2, 3 (power), 4 (power), 5, 6, 7 (power), 8 (power), 9, 10, 11 (power), 12 (power), 13, 14, 15 (power)

## Header Male 1x6
designator P?
Headers & Wire Housings 36Pin 2mm Spacing Single Row Hdrs, 5pc; Manufacturer: Molex, LLC; Manufacturer Part Number: 0022284360; Connector Type: Header, Unshrouded, Breakaway; Number of Positions: 36; Number of Positions Loaded: All; Pitch: 0.100" (2.54mm); Supplier 1: Digi-Key; RoHS: RoHS Compliant; Category: Connectors, Interconnects; Stock 1: 9595; Pricing 1: 1=0.98, 10=0.858, 25=0.808, 50=0.7742, 100=0.7405, 250=0.6732, 500=0.60588 (USD); Packaging: Bulk; Contact Type: Male Pin; Number of Rows: 1; Row Spacing: -; Contact Mating Length: 0.240" (6.10mm); Mounting Type: Through Hole; Termination: Solder; Fastening Type: -; Features: -; Contact Finish: Tin; Contact Finish Thickness: 100µin (2.54µm); Color: Black; ComponentLink1URL: http://www.molex.com/pdm_docs/sd/022284360_sd.pdf; ComponentLink1Description: http://www.molex.com/pdm_docs/sd/022284360_sd.pdf; Supplier Part Number 1: WM50014-36-ND
footprint HDR FEMALE 1x6
footprint HDR1X6
footprint HDR MALE 1X6 (PinHeader 1x6 TH Pitch 2.54mm)
pins: 1, 2, 3, 4, 5, 6

## Header Male 1x7
designator P?  (value not drawn)
Headers & Wire Housings 40Pin 2mm Spacing Single Row Hdrs, 5pc; Manufacturer: Cromax; Manufacturer Part Number: IMP10327; Mounting Angle: Vertical; Number of Positions: 40 Position; Supplier 1: Mult Comercial; RoHS: RoHS Compliant; Category: Headers & Wire Housings; Stock 1: 14; Pricing 1: 1=1.00, 5=0.20 (BRL); Accessory Type: -; Contact Plating: Gold; Contact Type: -; Number of Rows: 1 Row; Product: Headers; Termination Style: Through Hole; Type: Breakaway; Brand: Cromax; Mounting Style: Straight Pin; Pitch: 2 mm; Row Spacing: -; Contact Gender: Pin (Male); Product Category: Accessories; RoHS - Mouser: Y; Minimum Order Quantity: 1; Reeling: False; ComponentLink1URL: http://loja.multcomercial.com.br/barra-de-pinos-simples-1x40-macho-bmo40-1e.html; ComponentLink1Description: http://loja.multcomercial.com.br/barra-de-pinos-simples-1x40-macho-bmo40-1e.html; Supplier Part Number 1: Barra de Pinos Simples 1x40 Macho BMO40-1E
footprint HDR MALE 1x7 (Connector; Header; 7 Position)
pins: 1 GND, 2 Cell 1, 3 Cell 2, 4 Cell 3 (power), 5 Cell 4 (power), 6 Cell 5 (power), 7 Cell 6 (power)

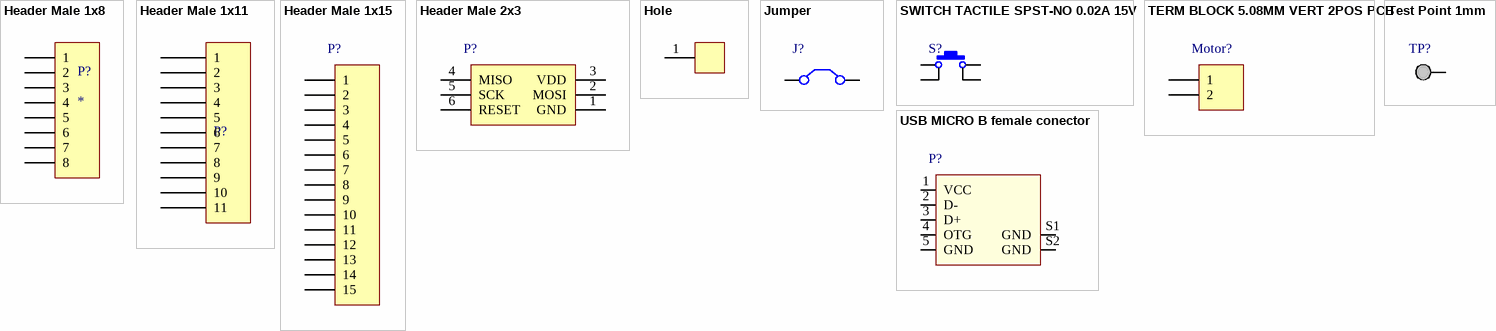
[diagram p1: symbols Header Male 1x8 to USB MICRO B female conector]

## Header Male 1x8
designator P?
Headers & Wire Housings 36Pin 2mm Spacing Single Row Hdrs, 5pc
footprint Pin Header 1x8 TH Pitch 2.54mm (PinHeader 1x8 TH Pitch 2.54mm)
pins: 1, 2, 3, 4, 5, 6, 7, 8

## Header Male 1x11
designator P?  (value not drawn)
Manufacturer: Molex, LLC; Manufacturer Part Number: 0022284360; Connector Type: Header, Breakaway; Pitch - Mating: 0.100" (2.54mm); Style: Board to Board or Cable; Shrouding: Unshrouded; Number of Positions: 36; Number of Positions Loaded: All; Contact Length - Mating: 0.240" (6.10mm); Contact Length - Post: 0.125" (3.18mm); Overall Contact Length: 0.455" (11.56mm); Material Flammability Rating: UL94 V-0; Supplier 1: Digi-Key; RoHS: RoHS Compliant; Category: Connectors, Interconnects; Stock 1: 14292; Pricing 1: 1=0.98, 10=0.858, 25=0.808, 50=0.7742, 100=0.7405, 250=0.6732, 500=0.60588 (USD); Packaging: Bulk; Part Status: Active; Contact Type: Male Pin; Number of Rows: 1; Row Spacing - Mating: -; Mounting Type: Through Hole; Termination: Solder; Fastening Type: Push-Pull; Insulation Height: 0.090" (2.29mm); Contact Shape: Square; Contact Finish - Mating: Tin; Contact Finish Thickness - Mating: 100µin (2.54µm); Contact Finish - Post: Tin; Contact Material: -; Insulation Material: Polyamide (PA), Nylon, Glass Filled; Features: -; Operating Temperature: -; Ingress Protection: -; Insulation Color: Black; Current Rating: -; Voltage Rating: -; Mated Stacking Heights: -; Contact Finish Thickness - Post: 100µin (2.54µm); Applications: Automotive, General Purpose, Medical, Telecommunications; ComponentLink1URL: http://www.molex.com/pdm_docs/sd/022284360_sd.pdf; ComponentLink1Description: http://www.molex.com/pdm_docs/sd/022284360_sd.pdf; Supplier Part Number 1: WM50014-36-ND
footprint Pin Header 1x11 TH Pitch 2.54mm (PinHeader 1x11 TH Pitch 2.54mm)
pins: 1, 2, 3, 4, 5, 6, 7, 8, 9, 10, 11

## Header Male 1x15
designator P?  (value not drawn)
Headers & Wire Housings 40Pin 2mm Spacing Single Row Hdrs, 5pc; Manufacturer: Cromax; Mounting Angle: Vertical; Number of Positions: 40 Position; Supplier 1: -; Manufacturer Part Number: -; RoHS: RoHS Compliant; Category: Headers & Wire Housings; Stock 1: 14; Pricing 1: 1=1.60, 5=0.32 (BRL); Accessory Type: -; Contact Plating: Gold; Contact Type: -; Number of Rows: 1 Row; Product: Headers; Termination Style: Through Hole; Type: Breakaway; Brand: Cromax; Mounting Style: Straight Pin; Pitch: 2 mm; Row Spacing: -; Contact Gender: Pin (Female); Product Category: Accessories; RoHS - Mouser: Y; Minimum Order Quantity: 1; Reeling: False; ComponentLink1URL: -; ComponentLink1Description: -; Supplier Part Number 1: -
footprint Pin Header 1x15 TH Pitch 2.54mm (PinHeader 1x15 TH Pitch 2.54mm)
pins: 1, 2, 3 (power), 4 (power), 5, 6, 7 (power), 8 (power), 9, 10, 11 (power), 12 (power), 13, 14, 15 (power)

## Header Male 2x3
designator P?  (value not drawn)
Headers & Wire Housings 80Pin 2mm Spacing Single Row Hdrs, 5pc; Manufacturer: Cromax; Manufacturer Part Number: PR00004421; Mounting Angle: Vertical; Number of Positions: 80 Position; Supplier 1: Mult Comercial; RoHS: RoHS Compliant; Category: Headers & Wire Housings; Stock 1: 14; Pricing 1: 1=5.60, 5=1.12 (BRL); Accessory Type: -; Contact Plating: Gold; Contact Type: -; Number of Rows: 2 Row; Product: Headers; Termination Style: Through Hole; Type: Breakaway; Brand: Cromax; Mounting Style: Straight Pin; Pitch: 2 mm; Row Spacing: -; Contact Gender: Pin (Male); Product Category: Accessories; RoHS - Mouser: Y; Minimum Order Quantity: 1; Reeling: False; ComponentLink1URL: http://loja.multcomercial.com.br/barra-de-pinos-duplos-2x40-macho-bma040-2e.html; ComponentLink1Description: http://loja.multcomercial.com.br/barra-de-pinos-duplos-2x40-macho-bma040-2e.html; Supplier Part Number 1: Barra de Pinos Duplos 2x40 Macho BMA040-2E
footprint HDR MALE 2x3 (Connector; Header; 6 Position)
pins: 1 GND (power), 2 MOSI, 3 VDD (power), 4 MISO, 5 SCK, 6 RESET

## Hole
designator H?  (value not drawn)
General Purpose hole
footprint Hole 1x1 (PinHeader 1x3 TH Pitch 2.54mm)
pins: 1

## Jumper
designator J?  (value not drawn)
Jumper - Custom lenght on footprint
footprint JUMPER_1 (Jumper - 1 tracks)
footprint JUMPER_2 (Jumper - 2 tracks)
footprint JUMPER_3 (Jumper - 3 tracks)
footprint JUMPER_4 (Jumper - 4 tracks)
pins: 1 C1, 2 C2

## SWITCH TACTILE SPST-NO 0.02A 15V
designator S?, comment SPST-NO  (value not drawn)
SWITCH TACTILE SPST-NO 0.02A 15V; Manufacturer: Panasonic Electronic Components; Manufacturer Part Number: EVQ-PAC07K; Switch Function: Off-Mom; Contact Rating @ Voltage: 0.02A @ 15VDC; Actuator Type: Standard; Actuator Height off PCB, from Pins: 7.00mm; Actuator Orientation: Top Actuated; Outline: 6.00mm x 6.00mm; Illumination: Non-Illuminated; Operating Force: 100gf; Switch Travel: 0.25mm; Mechanical Life: 100,000 Cycles; Supplier 1: Digi-Key; RoHS: RoHS Compliant; Category: Switches; Stock 1: 19805; Pricing 1: 1=0.27, 10=0.254, 25=0.2168, 50=0.1896, 100=0.176, 250=0.15572, 500=0.14894, 1000=0.12186, 5000=0.10832 (USD); Packaging: Bulk; Part Status: Active; Circuit: SPST-NO; Mounting Type: Through Hole; Termination Style: PC Pin; Illumination Voltage (Nominal): -; Illumination Type, Color: -; Ingress Protection: -; Features: -; Actuator Material: -; Operating Temperature: -20°C ~ 70°C; ComponentLink1URL: http://industrial.panasonic.com/cdbs/www-data/pdf/ATK0000/ATK0000CE10.pdf; ComponentLink1Description: http://industrial.panasonic.com/cdbs/www-data/pdf/ATK0000/ATK0000CE10.pdf; Supplier Part Number 1: P8011S-ND
footprint TACT SWITCH 6X6X7MM (Tactile Switch 6x6x7mm)
pins: 1, 2, 3, 4

## TERM BLOCK 5.08MM VERT 2POS PCB
designator Motor?, comment BORNE 2POS  (value not drawn)
TERM BLOCK 5.08MM VERT 2POS PCB; Manufacturer: On Shore Technology Inc.; Manufacturer Part Number: OSTTC022162; Number of Levels: 1; Positions Per Level: 2; Pitch: 0.200" (5.08mm); Mating Orientation: Horizontal with Board; Current: 15A; Voltage: 300V; Wire Gauge: 14-22 AWG; Wire Termination: Screw - Leaf Spring, Wire Guard; Clamp Material - Plating: Steel, Stainless; Screw Material - Plating: Steel - Zinc Plated; Torque - Screw: 0.3 Nm (2.6 Lb-In); Screw Thread: M2.6; Supplier 1: Digi-Key; RoHS: RoHS Compliant; Category: Connectors, Interconnects; Stock 1: 58204; Pricing 1: 1=0.42, 10=0.399, 50=0.2908, 100=0.2793, 250=0.2508, 500=0.2394, 1000=0.1995, 2500=0.1824, 5000=0.171 (USD); Packaging: Bulk; Part Status: Active; Mounting Type: Through Hole; Features: Interlocking (Side); Color: Blue; Operating Temperature: -30°C ~ 105°C; Housing Material: Thermoplastic; Contact Material - Plating: Tin Plated; ComponentLink1URL: http://www.on-shore.com/wp-content/uploads/2015/09/osttcxx2162.pdf; ComponentLink1Description: http://www.on-shore.com/wp-content/uploads/2015/09/osttcxx2162.pdf; Supplier Part Number 1: ED2609-ND
footprint BORNE 2POS
pins: 1, 2

## Test Point 1mm
designator TP?  (value not drawn)
footprint TEST POINT
pins: 1

## USB MICRO B female conector
designator P?, comment ZX62M-B-5P(30)  (value not drawn)
CONN RCPT USB MICRO B ME6 SMD; Manufacturer: Hirose Electric Co Ltd; Connector Type: USB - micro B; Number of Contacts: 5; Gender: Receptacle; Specifications: USB 2.0; Number of Ports: 1; Current Rating: 1.8A; Voltage - Rated: 30VAC; Mating Cycles: 10000; Shielding: Shielded; Material Flammability Rating: UL94 V-0; Supplier 1: Digi-Key; Manufacturer Part Number: ZX62M-B-5P(30); RoHS: RoHS Compliant; Category: Connectors, Interconnects; Stock 1: 0; Pricing 1: 1=0.8, 10=0.701, 25=0.66, 50=0.6326, 100=0.605, 250=0.55, 500=0.495 (USD); Packaging: Cut Tape (CT); Part Status: Active; Mounting Type: Board Edge, Cutout; Surface Mount, Right Angle; Mounting Feature: Horizontal, Mid Mount; Termination: Solder; Features: Pick and Place, Solder Retention; Ingress Protection: -; Operating Temperature: -30°C ~ 85°C; Contact Finish: Gold; Shell/Shielding Material: Steel, Stainless; Insulation Color: Black; ComponentLink1URL: https://www.hirose.com/product/download/?distributor=digikey&type=2d&lang=en&num=ZX62M-B-5P(30); ComponentLink1Description: https://www.hirose.com/product/download/?distributor=digikey&type=2d&lang=en&num=ZX62M-B-5P(30); Supplier Part Number 1: H125273CT-ND
footprint USB MICRO FEMALE
pins: 1 VCC, 2 D-, 3 D+, 4 OTG, 5 GND, S1 GND, S2 GND